# Altium footprint library SNT-6A.PcbLib: 1 footprints
Each footprint in its own frame and in the unit in brackets; x right, y up, seen from the top. Pads: shape width x height; smd on the part's side, far side on the other; paste and mask are expansions set on the pad; w line width, h text height; cw(c..) or ccw(c..) is an arc to the next point about the centre after c.
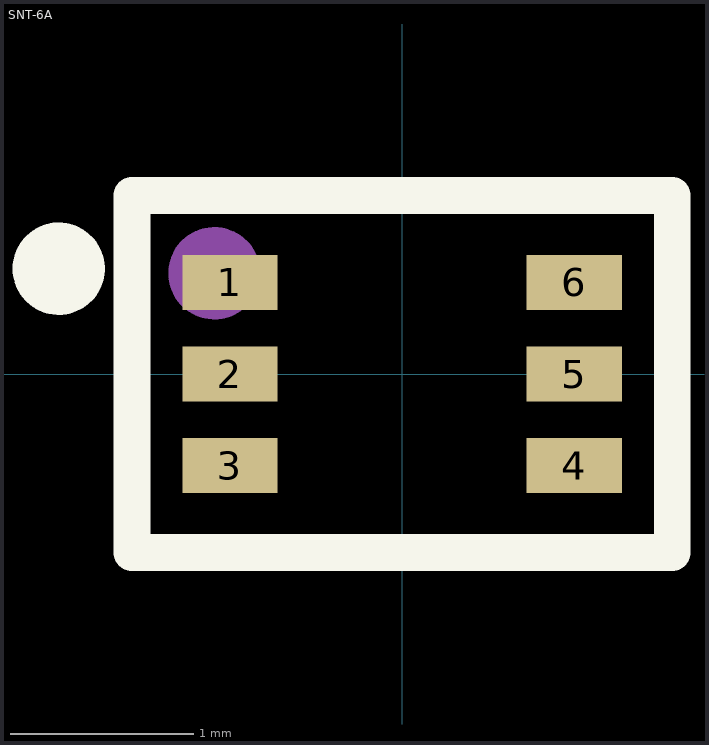
[diagram p0: the footprint, top view; thin cyan lines are the x and y axes]

## SNT-6A [mm]
pads (6):
  rect 0.52x0.3 smd: 1(-0.94,0.5) 2(-0.94,0) 3(-0.94,-0.5) 4(0.94,-0.5) 5(0.94,0) 6(0.94,0.5)
Top Overlay:
  circle w0.254: c-1.875,0.575 r0.125
  lines w0.2: -1.475,-0.975 -1.475,0.975 1.475,0.975 1.475,-0.975 -1.475,-0.975
Top Assembly:
  circle w0.254: c-1.025,0.55 r0.125
  lines w0.1: -1.45,-0.95 1.45,-0.95 1.45,0.975 -1.45,0.975 -1.45,-0.95
  text "'.Designator'" at -0.7,-0.325 h0.7
3D body: height 0.5, standoff 0, extent -0.8,-0.8 0.8,0.8